# Altium integrated library SparkFun-Aesthetics.Library.IntLib: 94 symbols
Pins are listed as number, name and electrical type; pins without a type are passive.

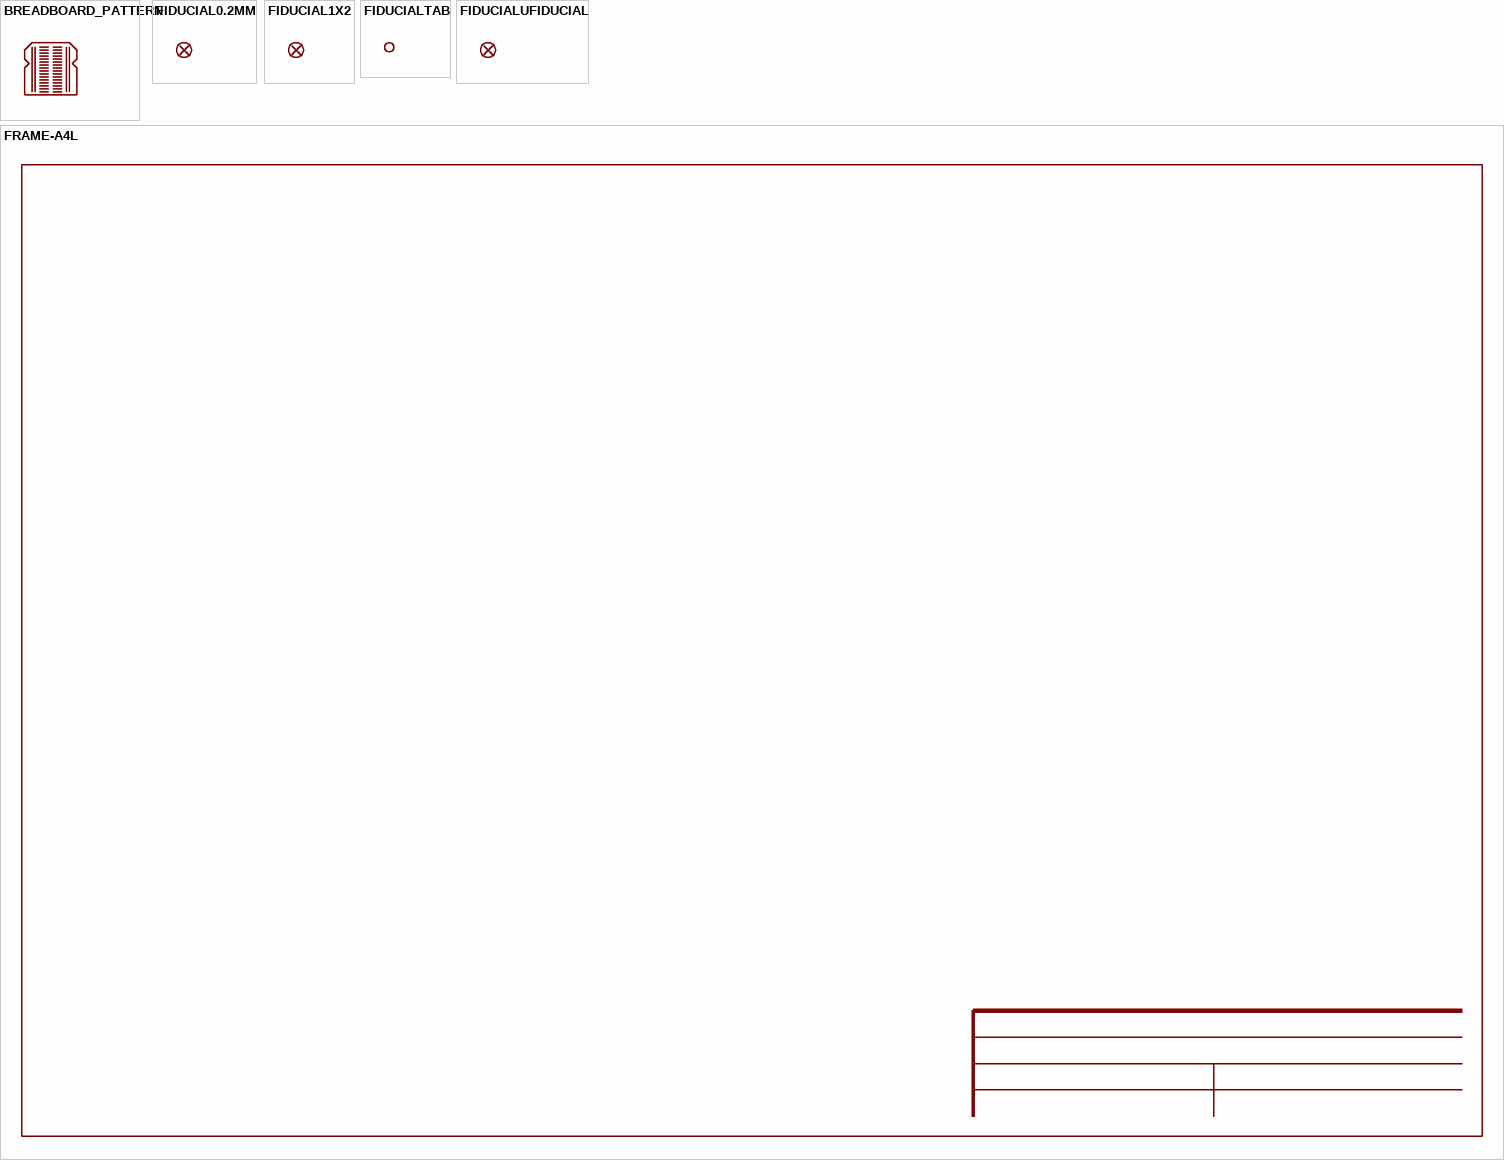
[diagram p0: symbols BREADBOARD_PATTERN to FRAME-A4L]

## BREADBOARD_PATTERN
designator LOGO?, comment Breadboard-Spacing Reference    tDoc reference markings that correspond to solderless breadboard row spacing. Includes power rails and void space between rows.  (value not drawn)
GateName_1: G$1; SymbolName_1: BREADBOARD_ROWS; DeviceSetName: BREADBOARD_PATTERN; LibraryName: SparkFun-Aesthetics; Package: BREADBOARD_SPACING
footprint BREADBOARD_SPACING

## FIDUCIAL0.2MM
designator FD?, comment Fiducial Alignment Points    Point-of-reference for pick-and-place machines and other optical instruments.  (value not drawn)
GateName_1: G$1; DeviceName: 0.2MM; SymbolName_1: FIDUCIAL; LibraryName: SparkFun-Aesthetics; DeviceSetName: FIDUCIAL; Package: FIDUCIAL-0.2MM
footprint FIDUCIAL-0.2MM

## FIDUCIAL1X2
designator FD?, comment Fiducial Alignment Points    Point-of-reference for pick-and-place machines and other optical instruments.  (value not drawn)
GateName_1: G$1; DeviceName: 1X2; SymbolName_1: FIDUCIAL; LibraryName: SparkFun-Aesthetics; DeviceSetName: FIDUCIAL; Package: FIDUCIAL-1X2
footprint FIDUCIAL-1X2

## FIDUCIALTAB
designator FD?, comment Fiducial Panel Tab    This is half of a tab, with fiducial reference mark, used to connect individual boards in a panel of PCBs.   Two of these half tabs, rotated in opposite directions, can be connected together to form a full tab, with two fiducial markings. Place along the edge of a panel of PCBs, this will allow for panels with boards not connected by v-scores, which allows for easier depanelization where there are overhanging components. It can also be used for designs too small to accomodate fiducial marks on individual boards.  (value not drawn)
GateName_1: G$1; SymbolName_1: FIDUCIALTAB; LibraryName: SparkFun-Aesthetics; DeviceSetName: FIDUCIALTAB; Package: FIDUCIALTAB
footprint FIDUCIALTAB

## FIDUCIALUFIDUCIAL
designator FD?, comment Fiducial Alignment Points    Point-of-reference for pick-and-place machines and other optical instruments.  (value not drawn)
GateName_1: G$1; DeviceName: UFIDUCIAL; SymbolName_1: FIDUCIAL; LibraryName: SparkFun-Aesthetics; DeviceSetName: FIDUCIAL; Package: FIDUCIAL-MICRO
footprint FIDUCIAL-MICRO

## FIO_LOGOV2
designator LOGO?, comment Funnel IO (FIO) Logo - Silkscreen    Used on the Arduino Fio.   Devices using:  FIO_LOGO  (value not drawn)
GateName_1: G$1; DeviceName: V2; SymbolName_1: FIO_LOGO; LibraryName: SparkFun-Aesthetics; DeviceSetName: FIO_LOGO; Package: FIO_LOGO
footprint FIO_LOGO

## FOUR_LAYER_WARNING
designator LOGO?, comment Four-Layer Board Warning - tDoc Layer    Warning text which will appear on both the schematic and the board file, notifying viewers that the design is a four-layer PCB.  (value not drawn)
GateName_1: G$1; SymbolName_1: FOUR_LAYER_WARNING; LibraryName: SparkFun-Aesthetics; DeviceSetName: FOUR_LAYER_WARNING; Package: FOUR_LAYER_WARNING
footprint FOUR_LAYER_WARNING

## FRAME-A4L
designator FRAME?, comment Schematic Frame - A4L - European Format    Standard A4 size frame in Landscape  (value not drawn)
GateName_1: G$1; SymbolName_1: FR-A4L; LibraryName: SparkFun-Aesthetics; DeviceSetName: FRAME-A4L

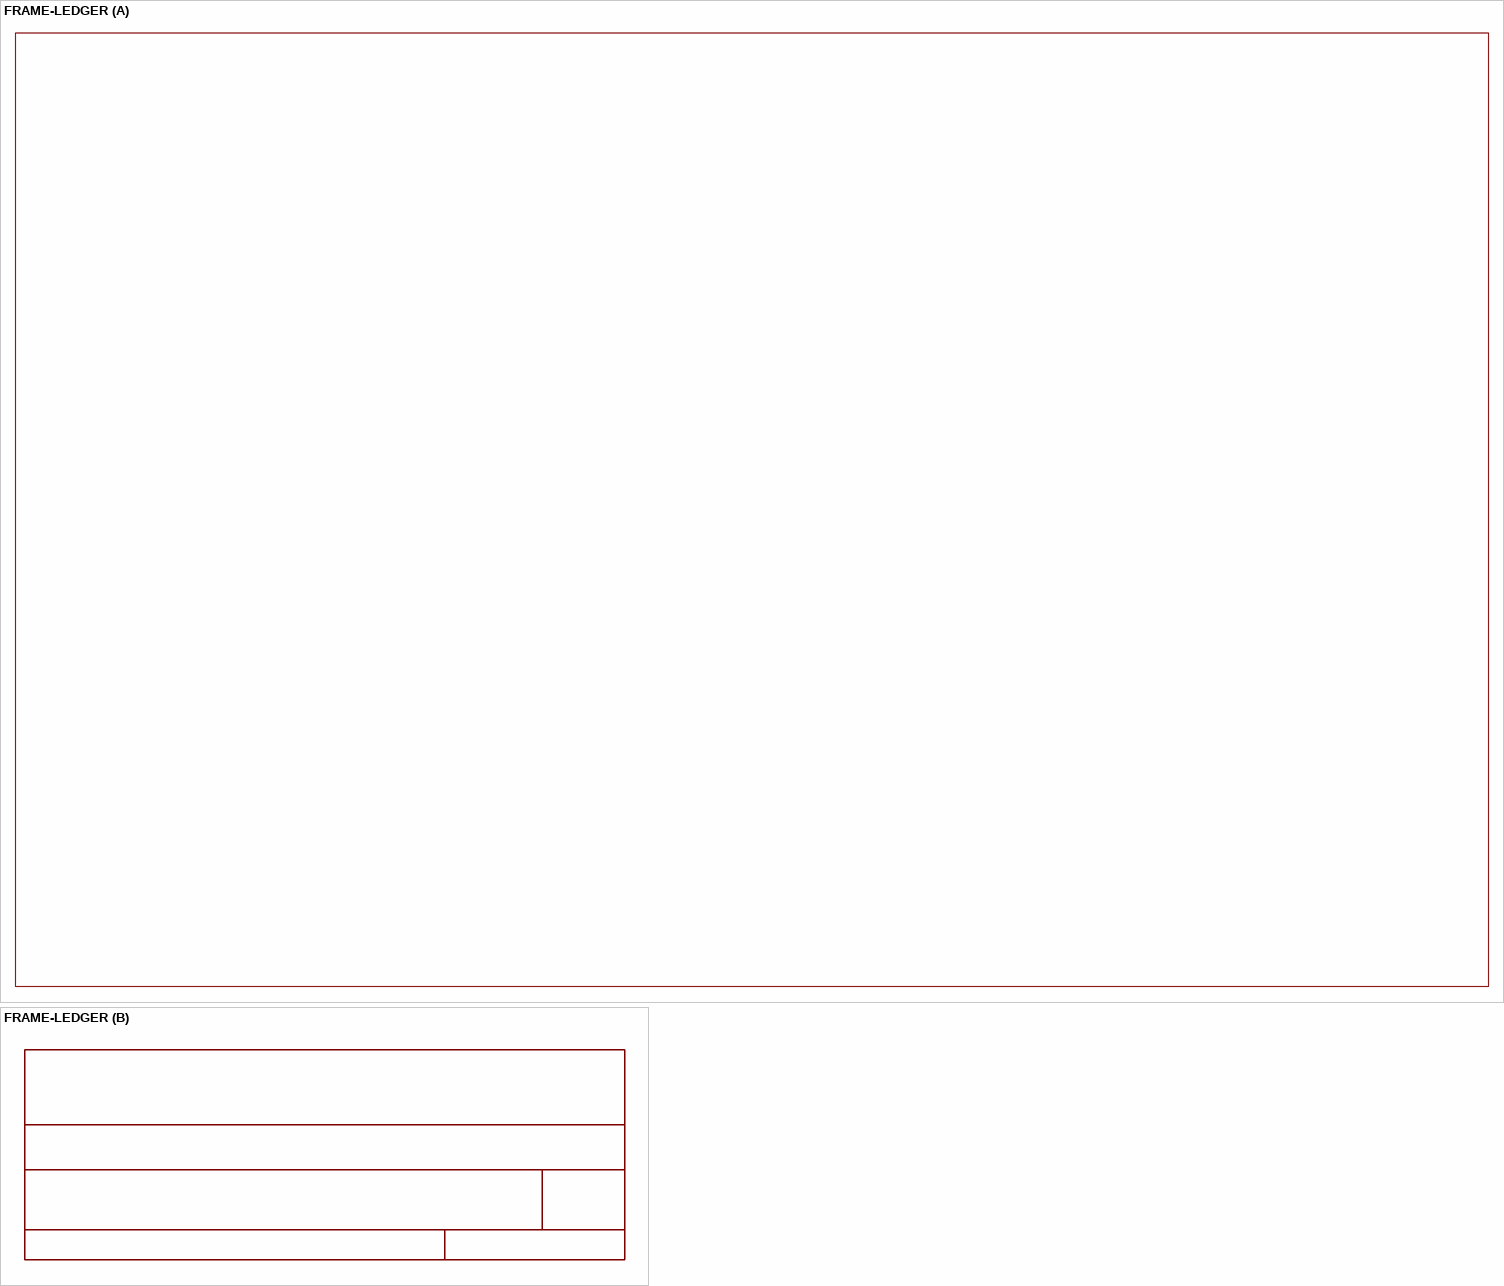
[diagram p1: symbol FRAME-LEDGER]

## FRAME-LEDGER
designator FRAME?, comment Schematic Frame - Ledger    Standard 11x14 US Ledger frame  (value not drawn)
GateName_1: G$1; SymbolName_1: FRAME_LEDGER; GateName_2: G$2; SymbolName_2: DOCFIELD; LibraryName: SparkFun-Aesthetics; DeviceSetName: FRAME-LEDGER; Package: CREATIVE_COMMONS
footprint CREATIVE_COMMONS

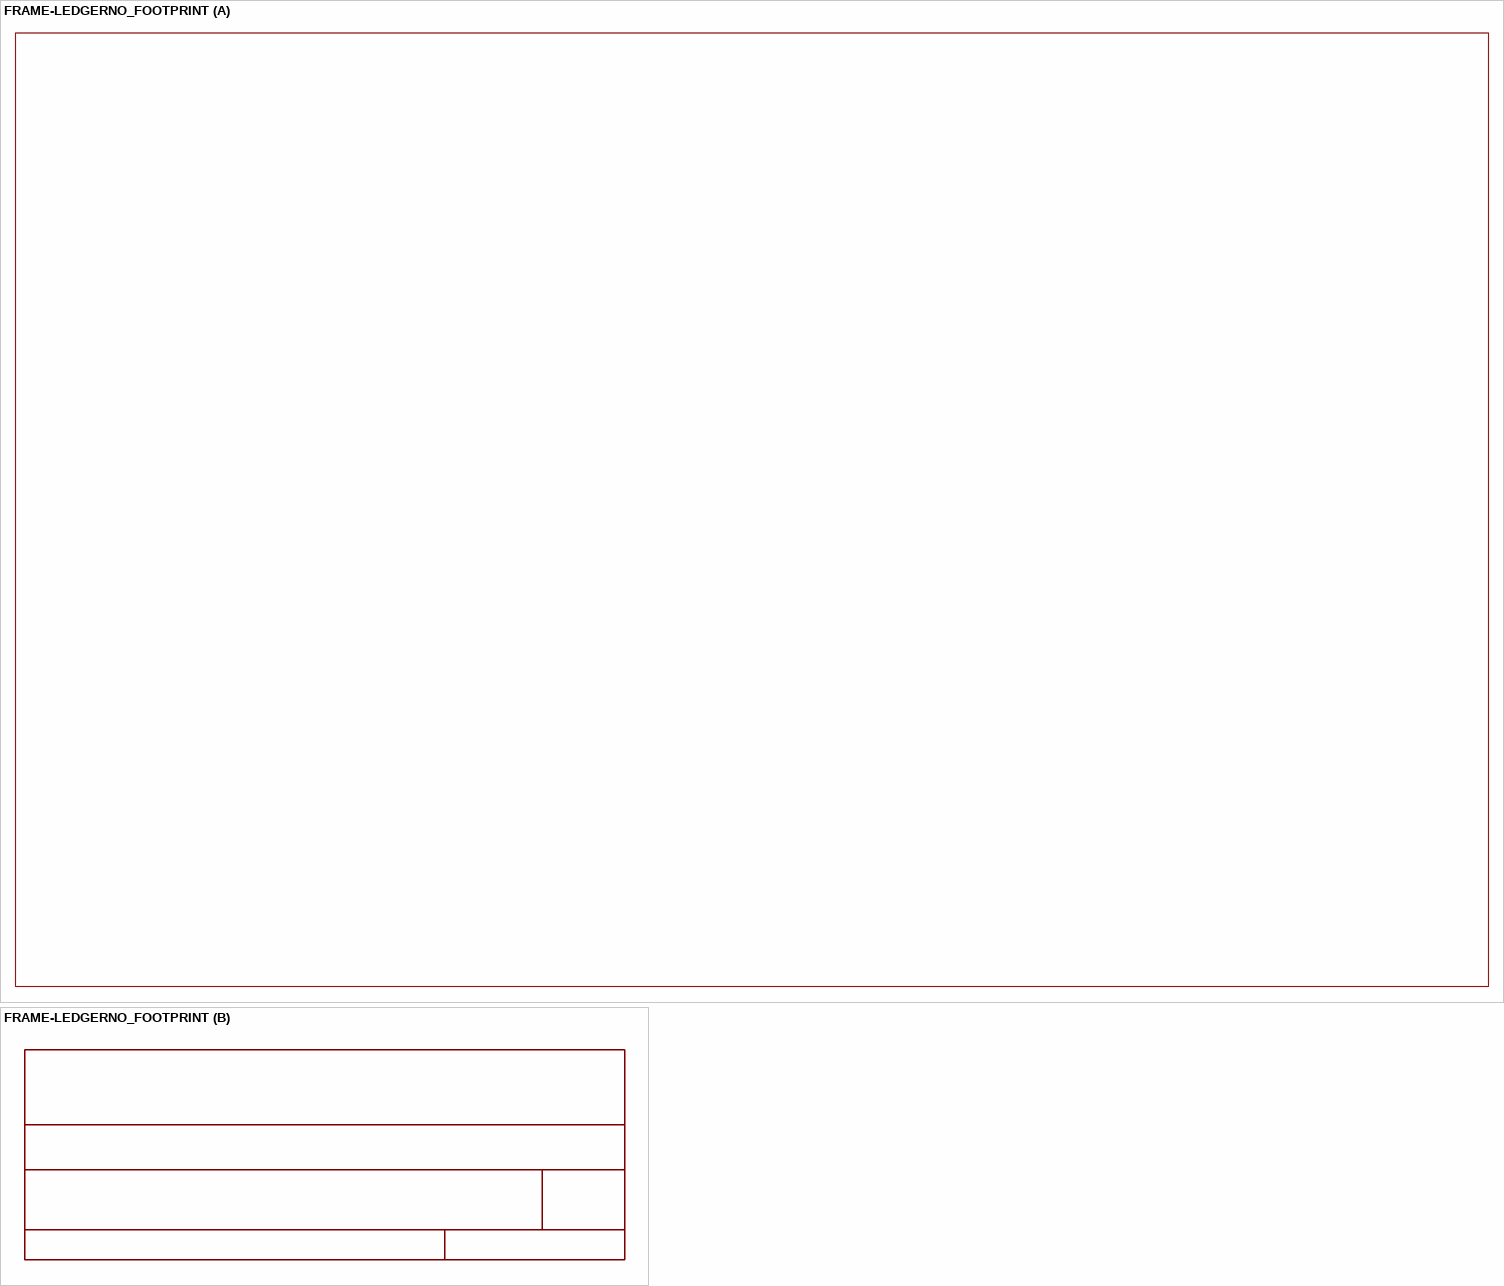
[diagram p2: symbol FRAME-LEDGERNO_FOOTPRINT]

## FRAME-LEDGERNO_FOOTPRINT
designator FRAME?, comment Schematic Frame - Ledger    Standard 11x14 US Ledger frame  (value not drawn)
GateName_1: G$1; SymbolName_1: FRAME_LEDGER; GateName_2: G$2; SymbolName_2: DOCFIELD; DeviceName: NO_FOOTPRINT; LibraryName: SparkFun-Aesthetics; DeviceSetName: FRAME-LEDGER; Package: DUMMY
footprint DUMMY

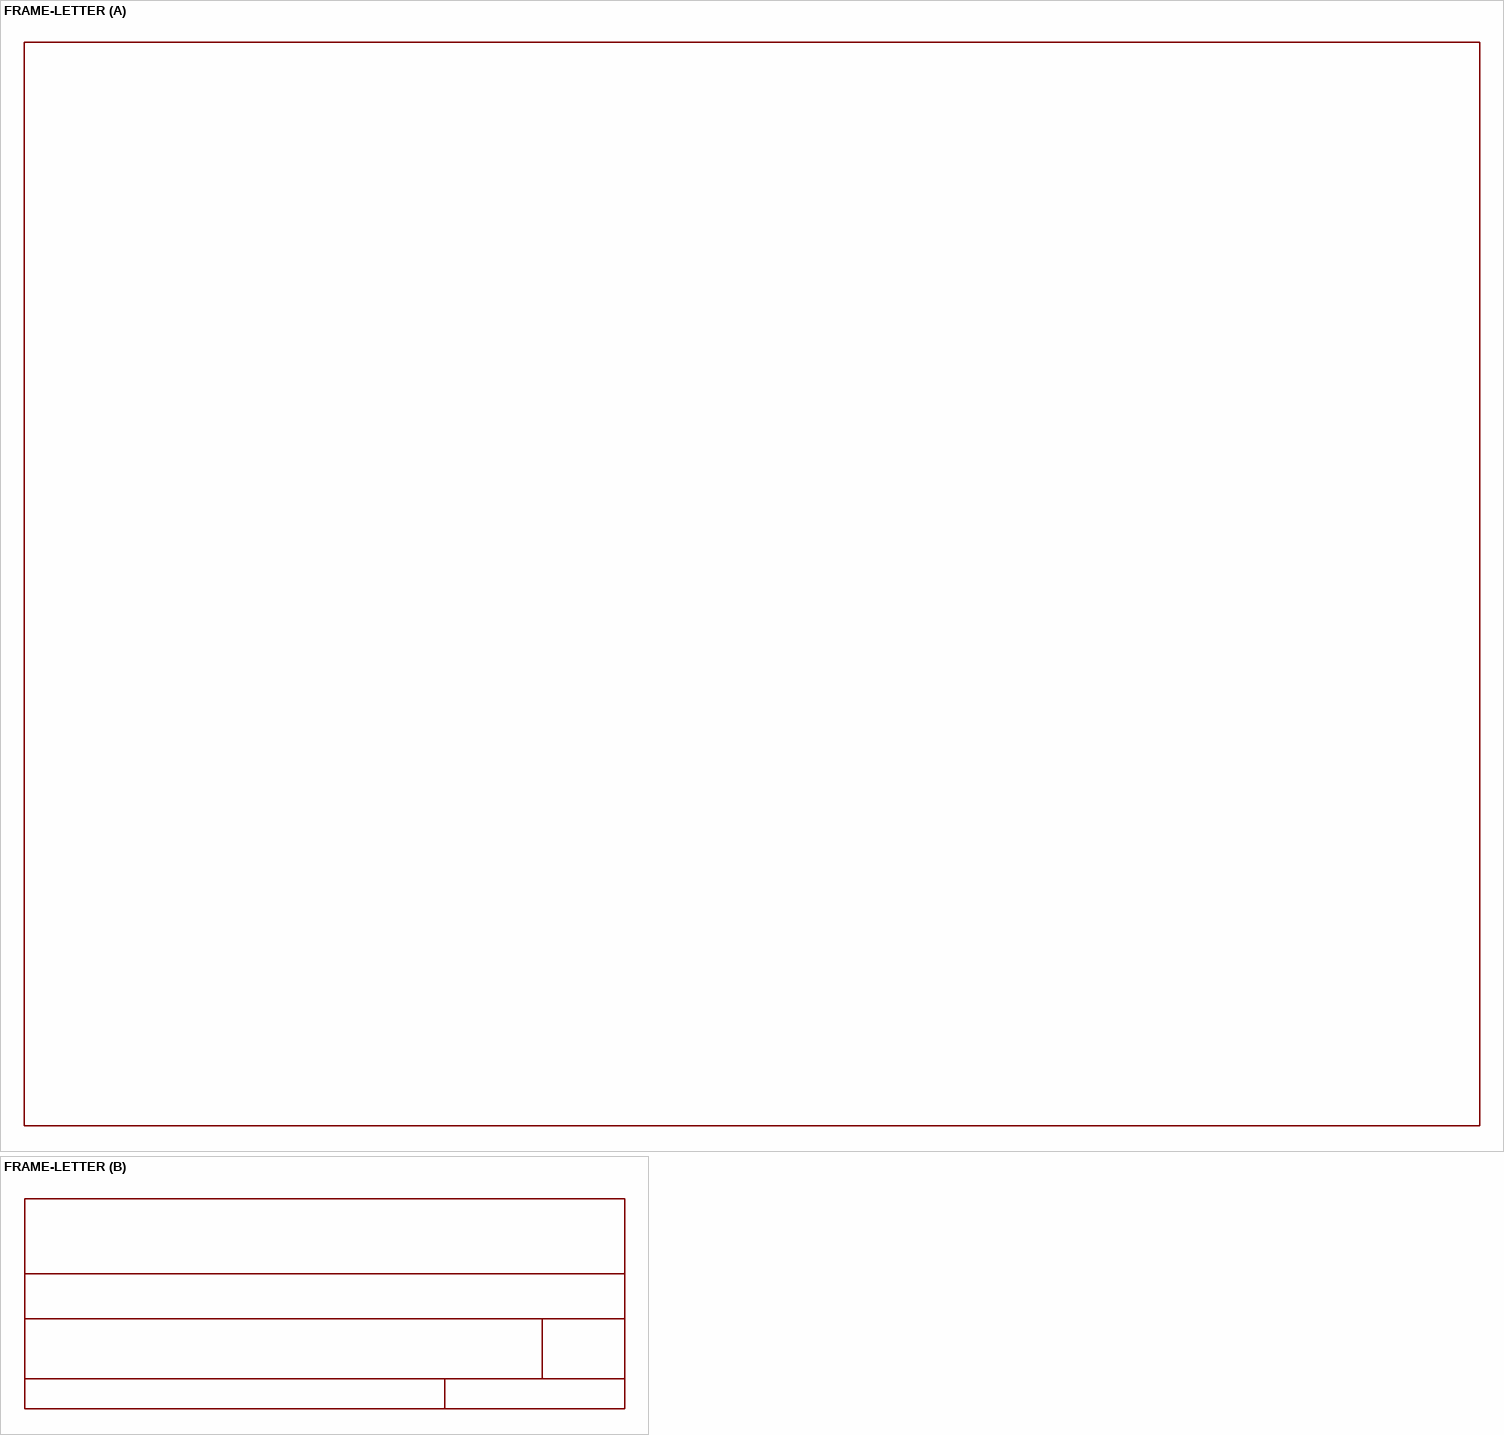
[diagram p3: symbol FRAME-LETTER]

## FRAME-LETTER
designator FRAME?, comment Schematic Frame - Letter    Standard 8.5x11 US Letter frame  (value not drawn)
GateName_1: G$1; GateName_2: V; SymbolName_2: DOCFIELD; SymbolName_1: FRAME-LETTER; LibraryName: SparkFun-Aesthetics; DeviceSetName: FRAME-LETTER; Package: CREATIVE_COMMONS
footprint CREATIVE_COMMONS

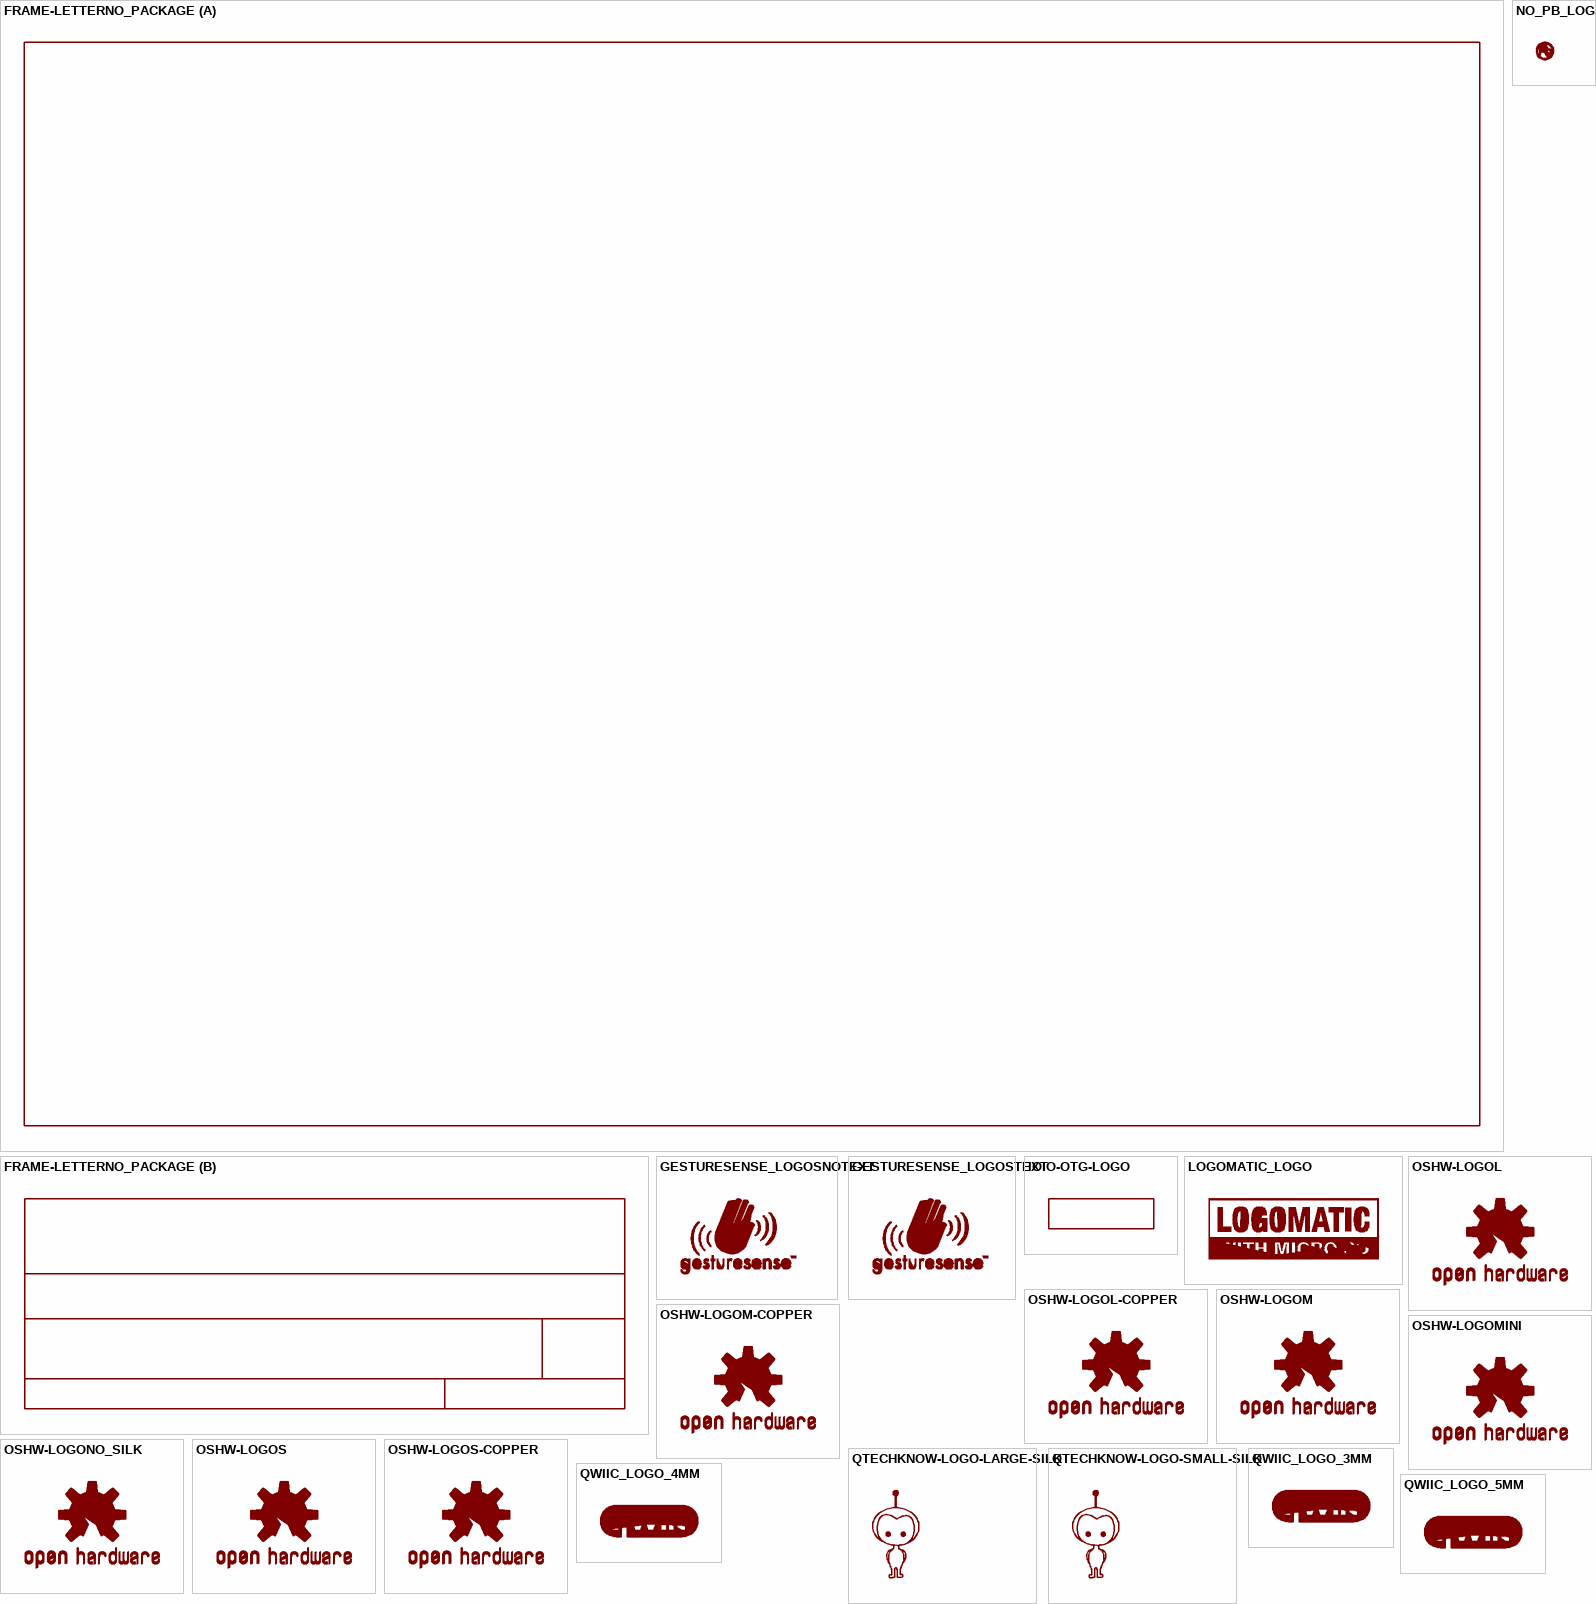
[diagram p4: symbols FRAME-LETTERNO_PACKAGE to QWIIC_LOGO_5MM]

## FRAME-LETTERNO_PACKAGE
designator FRAME?, comment Schematic Frame - Letter    Standard 8.5x11 US Letter frame  (value not drawn)
GateName_1: G$1; GateName_2: V; SymbolName_2: DOCFIELD; DeviceName: NO_PACKAGE; DESIGNER: Nobody; SymbolName_1: FRAME-LETTER; LibraryName: SparkFun-Aesthetics; DeviceSetName: FRAME-LETTER; Package: DUMMY; VERSION: v01
footprint DUMMY

## GESTURESENSE_LOGOSNOTEXT
designator LOGO?, comment GestureSense Logo    Used on the ZX Distance and Gesture Sensor.  (value not drawn)
GateName_1: G$1; DeviceName: NOTEXT; DeviceSetName: GESTURESENSE_LOGOS; SymbolName_1: GESTURESENSE; LibraryName: SparkFun-Aesthetics; Package: GESTURESENSE_NOTEXT
footprint GESTURESENSE_NOTEXT

## GESTURESENSE_LOGOSTEXT
designator LOGO?, comment GestureSense Logo    Used on the ZX Distance and Gesture Sensor.  (value not drawn)
GateName_1: G$1; DeviceName: TEXT; DeviceSetName: GESTURESENSE_LOGOS; SymbolName_1: GESTURESENSE; LibraryName: SparkFun-Aesthetics; Package: GESTURESENSE_TEXT
footprint GESTURESENSE_TEXT

## IOIO-OTG-LOGO
designator LOGO?, comment IOIO OTG Logo - Exposed Copper    Logo used on the SparkFun IOIO-OTG.  (value not drawn)
GateName_1: G$1; DeviceSetName: IOIO-OTG-LOGO; SymbolName_1: IOIO-OTG; LibraryName: SparkFun-Aesthetics; Package: IOIO-OTG-COPPER-EXPOSED
footprint IOIO-OTG-COPPER-EXPOSED

## LOGO-CONTROLLER_BIT
designator ?
GateName_1: G$1; SymbolName_1: LOGO-CONTROLLER_BIT; LibraryName: SparkFun-Aesthetics; DeviceSetName: LOGO-CONTROLLER_BIT; Package: LOGO-CONTROLLER_BIT
footprint LOGO-CONTROLLER_BIT

## LOGOMATIC_LOGO
designator LOGO?, comment SparkFun Logomatic Logo - Silkscreen    Logo used on the SparkFun Logomatic v2.   Silk is .4" by 1.1" Board logo is .4" by 1.1"  (value not drawn)
GateName_1: G$1; SymbolName_1: LOGOMATIC_LOGO; LibraryName: SparkFun-Aesthetics; DeviceSetName: LOGOMATIC_LOGO; Package: LOGOMATIC_LOGO
footprint LOGOMATIC_LOGO

## NO_PB_LOGO
designator LOGO?, comment Lead-Free (No Pb) Logo    Logo for lead-safe certified hardware.  (value not drawn)
GateName_1: G$1; SymbolName_1: NO_PB_LOGO; LibraryName: SparkFun-Aesthetics; DeviceSetName: NO_PB_LOGO; Package: NO_PB_LOGO_0.120
footprint NO_PB_LOGO_0.120

## OSHW-LOGOL
designator LOGO?, comment Open-Source Hardware (OSHW) Logo     This logo indicates the piece of hardware it is found on incorporates a OSHW license and/or adheres to the definition of open source hardware found here: http://freedomdefined.org/OSHW  (value not drawn)
GateName_1: G$1; SymbolName_1: OSHW-LOGO; DeviceName: L; LibraryName: SparkFun-Aesthetics; DeviceSetName: OSHW-LOGO; Package: OSHW-LOGO-L
footprint OSHW-LOGO-L

## OSHW-LOGOL-COPPER
designator LOGO?, comment Open-Source Hardware (OSHW) Logo     This logo indicates the piece of hardware it is found on incorporates a OSHW license and/or adheres to the definition of open source hardware found here: http://freedomdefined.org/OSHW  (value not drawn)
GateName_1: G$1; SymbolName_1: OSHW-LOGO; DeviceName: L-COPPER; LibraryName: SparkFun-Aesthetics; DeviceSetName: OSHW-LOGO; Package: OSHW-LOGO-L_COPPER
footprint OSHW-LOGO-L_COPPER

## OSHW-LOGOM
designator LOGO?, comment Open-Source Hardware (OSHW) Logo     This logo indicates the piece of hardware it is found on incorporates a OSHW license and/or adheres to the definition of open source hardware found here: http://freedomdefined.org/OSHW  (value not drawn)
GateName_1: G$1; SymbolName_1: OSHW-LOGO; DeviceName: M; LibraryName: SparkFun-Aesthetics; DeviceSetName: OSHW-LOGO; Package: OSHW-LOGO-M
footprint OSHW-LOGO-M

## OSHW-LOGOM-COPPER
designator LOGO?, comment Open-Source Hardware (OSHW) Logo     This logo indicates the piece of hardware it is found on incorporates a OSHW license and/or adheres to the definition of open source hardware found here: http://freedomdefined.org/OSHW  (value not drawn)
GateName_1: G$1; SymbolName_1: OSHW-LOGO; DeviceName: M-COPPER; LibraryName: SparkFun-Aesthetics; DeviceSetName: OSHW-LOGO; Package: OSHW-LOGO-M_COPPER
footprint OSHW-LOGO-M_COPPER

## OSHW-LOGOMINI
designator LOGO?, comment Open-Source Hardware (OSHW) Logo     This logo indicates the piece of hardware it is found on incorporates a OSHW license and/or adheres to the definition of open source hardware found here: http://freedomdefined.org/OSHW  (value not drawn)
GateName_1: G$1; SymbolName_1: OSHW-LOGO; DeviceName: MINI; LibraryName: SparkFun-Aesthetics; DeviceSetName: OSHW-LOGO; Package: OSHW-LOGO-MINI
footprint OSHW-LOGO-MINI

## OSHW-LOGONO_SILK
designator LOGO?, comment Open-Source Hardware (OSHW) Logo     This logo indicates the piece of hardware it is found on incorporates a OSHW license and/or adheres to the definition of open source hardware found here: http://freedomdefined.org/OSHW  (value not drawn)
GateName_1: G$1; SymbolName_1: OSHW-LOGO; DeviceName: NO_SILK; LibraryName: SparkFun-Aesthetics; DeviceSetName: OSHW-LOGO; Package: DUMMY
footprint DUMMY

## OSHW-LOGOS
designator LOGO?, comment Open-Source Hardware (OSHW) Logo     This logo indicates the piece of hardware it is found on incorporates a OSHW license and/or adheres to the definition of open source hardware found here: http://freedomdefined.org/OSHW  (value not drawn)
GateName_1: G$1; SymbolName_1: OSHW-LOGO; DeviceName: S; LibraryName: SparkFun-Aesthetics; DeviceSetName: OSHW-LOGO; Package: OSHW-LOGO-S
footprint OSHW-LOGO-S

## OSHW-LOGOS-COPPER
designator LOGO?, comment Open-Source Hardware (OSHW) Logo     This logo indicates the piece of hardware it is found on incorporates a OSHW license and/or adheres to the definition of open source hardware found here: http://freedomdefined.org/OSHW  (value not drawn)
GateName_1: G$1; SymbolName_1: OSHW-LOGO; DeviceName: S-COPPER; LibraryName: SparkFun-Aesthetics; DeviceSetName: OSHW-LOGO; Package: OSHW-LOGO-S_COPPER
footprint OSHW-LOGO-S_COPPER

## QTECHKNOW-LOGO-LARGE-SILK
designator LOGO?, comment Qtechknow "MightyQ" Logo    Silkscreen logo used on the Qduino Mini.  (value not drawn)
GateName_1: G$1; DeviceName: -LARGE-SILK; DeviceSetName: QTECHKNOW-LOGO; SymbolName_1: MIGHTYQ; LibraryName: SparkFun-Aesthetics; Package: QTECHKNOW-LOGO-LARGE-SILK
footprint QTECHKNOW-LOGO-LARGE-SILK

## QTECHKNOW-LOGO-SMALL-SILK
designator LOGO?, comment Qtechknow "MightyQ" Logo    Silkscreen logo used on the Qduino Mini.  (value not drawn)
GateName_1: G$1; DeviceName: -SMALL-SILK; DeviceSetName: QTECHKNOW-LOGO; SymbolName_1: MIGHTYQ; LibraryName: SparkFun-Aesthetics; Package: QTECHKNOW-LOGO-SMALL-SILK
footprint QTECHKNOW-LOGO-SMALL-SILK

## QWIIC_LOGO_3MM
designator LOGO?, comment Qwiic Logos for placement on schematic and PCB. The 5.5mm silk logo is best for placing next to Qwiic connector.  (value not drawn)
GateName_1: G$1; DeviceName: _3MM; DeviceSetName: QWIIC_LOGO; SymbolName_1: LOGO; LibraryName: SparkFun-Aesthetics; Package: QWIIC_3MM
footprint QWIIC_3MM

## QWIIC_LOGO_4MM
designator LOGO?, comment Qwiic Logos for placement on schematic and PCB. The 5.5mm silk logo is best for placing next to Qwiic connector.  (value not drawn)
GateName_1: G$1; DeviceName: _4MM; DeviceSetName: QWIIC_LOGO; SymbolName_1: LOGO; LibraryName: SparkFun-Aesthetics; Package: QWIIC_4MM
footprint QWIIC_4MM

## QWIIC_LOGO_5MM
designator LOGO?, comment Qwiic Logos for placement on schematic and PCB. The 5.5mm silk logo is best for placing next to Qwiic connector.  (value not drawn)
GateName_1: G$1; DeviceName: _5MM; DeviceSetName: QWIIC_LOGO; SymbolName_1: LOGO; LibraryName: SparkFun-Aesthetics; Package: QWIIC_5MM
footprint QWIIC_5MM

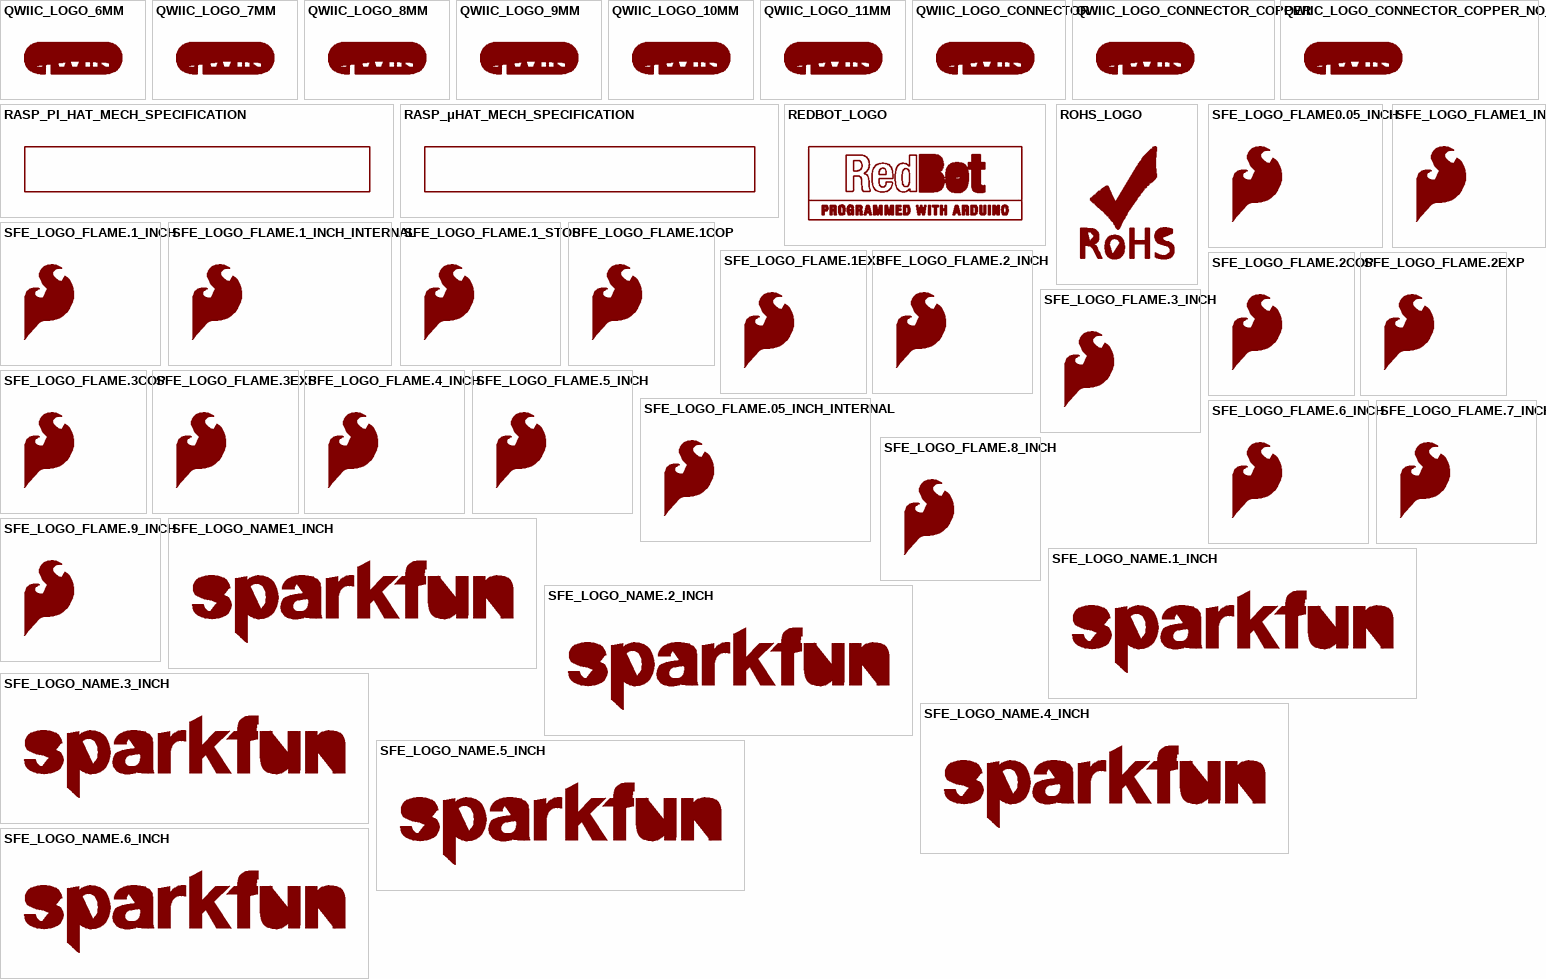
[diagram p5: symbols QWIIC_LOGO_6MM to SFE_LOGO_NAME.6_INCH]

## QWIIC_LOGO_6MM
designator LOGO?, comment Qwiic Logos for placement on schematic and PCB. The 5.5mm silk logo is best for placing next to Qwiic connector.  (value not drawn)
GateName_1: G$1; DeviceName: _6MM; DeviceSetName: QWIIC_LOGO; SymbolName_1: LOGO; LibraryName: SparkFun-Aesthetics; Package: QWIIC_6MM
footprint QWIIC_6MM

## QWIIC_LOGO_7MM
designator LOGO?, comment Qwiic Logos for placement on schematic and PCB. The 5.5mm silk logo is best for placing next to Qwiic connector.  (value not drawn)
GateName_1: G$1; DeviceName: _7MM; DeviceSetName: QWIIC_LOGO; SymbolName_1: LOGO; LibraryName: SparkFun-Aesthetics; Package: QWIIC_7MM
footprint QWIIC_7MM

## QWIIC_LOGO_8MM
designator LOGO?, comment Qwiic Logos for placement on schematic and PCB. The 5.5mm silk logo is best for placing next to Qwiic connector.  (value not drawn)
GateName_1: G$1; DeviceName: _8MM; DeviceSetName: QWIIC_LOGO; SymbolName_1: LOGO; LibraryName: SparkFun-Aesthetics; Package: QWIIC_8MM
footprint QWIIC_8MM

## QWIIC_LOGO_9MM
designator LOGO?, comment Qwiic Logos for placement on schematic and PCB. The 5.5mm silk logo is best for placing next to Qwiic connector.  (value not drawn)
GateName_1: G$1; DeviceName: _9MM; DeviceSetName: QWIIC_LOGO; SymbolName_1: LOGO; LibraryName: SparkFun-Aesthetics; Package: QWIIC_9MM
footprint QWIIC_9MM

## QWIIC_LOGO_10MM
designator LOGO?, comment Qwiic Logos for placement on schematic and PCB. The 5.5mm silk logo is best for placing next to Qwiic connector.  (value not drawn)
GateName_1: G$1; DeviceName: _10MM; DeviceSetName: QWIIC_LOGO; SymbolName_1: LOGO; LibraryName: SparkFun-Aesthetics; Package: QWIIC_10MM
footprint QWIIC_10MM

## QWIIC_LOGO_11MM
designator LOGO?, comment Qwiic Logos for placement on schematic and PCB. The 5.5mm silk logo is best for placing next to Qwiic connector.  (value not drawn)
GateName_1: G$1; DeviceName: _11MM; DeviceSetName: QWIIC_LOGO; SymbolName_1: LOGO; LibraryName: SparkFun-Aesthetics; Package: QWIIC_11MM
footprint QWIIC_11MM

## QWIIC_LOGO_CONNECTOR
designator LOGO?, comment Qwiic Logos for placement on schematic and PCB. The 5.5mm silk logo is best for placing next to Qwiic connector.  (value not drawn)
GateName_1: G$1; DeviceName: _CONNECTOR; DeviceSetName: QWIIC_LOGO; SymbolName_1: LOGO; LibraryName: SparkFun-Aesthetics; Package: QWIIC_5.5MM
footprint QWIIC_5.5MM

## QWIIC_LOGO_CONNECTOR_COPPER
designator LOGO?, comment Qwiic Logos for placement on schematic and PCB. The 5.5mm silk logo is best for placing next to Qwiic connector.  (value not drawn)
GateName_1: G$1; DeviceName: _CONNECTOR_COPPER; DeviceSetName: QWIIC_LOGO; SymbolName_1: LOGO; LibraryName: SparkFun-Aesthetics; Package: QWIIC_5.5MM_COPPER
footprint QWIIC_5.5MM_COPPER

## QWIIC_LOGO_CONNECTOR_COPPER_NO_MASK
designator LOGO?, comment Qwiic Logos for placement on schematic and PCB. The 5.5mm silk logo is best for placing next to Qwiic connector.  (value not drawn)
GateName_1: G$1; DeviceName: _CONNECTOR_COPPER_NO_MASK; DeviceSetName: QWIIC_LOGO; SymbolName_1: LOGO; LibraryName: SparkFun-Aesthetics; Package: QWIIC_5.5MM_COPPER_NO_MASK
footprint QWIIC_5.5MM_COPPER_NO_MASK

## RASP_PI_HAT_MECH_SPECIFICATION
designator ?
GateName_1: G$1; SymbolName_1: RASP_PI_HAT_SPECIFICATION; DeviceSetName: RASP_PI_HAT_MECH_SPECIFICATION; LibraryName: SparkFun-Aesthetics; Package: RASP_PI_HAT_SPECIFICATION
footprint RASP_PI_HAT_SPECIFICATION

## RASP_μHAT_MECH_SPECIFICATION
designator ?, comment Mechanical Specification for Raspberry Î¼Hat    The mechanical specification was pulled from their Github page.  (value not drawn)
GateName_1: G$1; SymbolName_1: RASP_μHAT_SPECIFICATION; DeviceSetName: RASP_μHAT_MECH_SPECIFICATION; LibraryName: SparkFun-Aesthetics; Package: RASP_μPI_HAT_SPECIFICATION
footprint RASP_μPI_HAT_SPECIFICATION

## REDBOT_LOGO
designator LOGO?, comment SparkFun RedBot Logo - Silkscreen    Logo for the RedBot board. Approx. 0.5" high, 1.4" wide. Used on the SparkFun RedBot Mainboard.  (value not drawn)
GateName_1: G$1; SymbolName_1: REDBOT_LOGO; LibraryName: SparkFun-Aesthetics; DeviceSetName: REDBOT_LOGO; Package: REDBOT_LOGO
footprint REDBOT_LOGO

## REVISION
designator LOGO?, comment "Revision By" Text    Preceding text for revisor documentation. Includes schematic text on "symbols" layer, and board text on tDoc.  (value not drawn)
GateName_1: G$1; SymbolName_1: REVISION; LibraryName: SparkFun-Aesthetics; DeviceSetName: REVISION; Package: REVISION
footprint REVISION

## ROHS_LOGO
designator LOGO?, comment Restriction of Hazardous Substances (RoHS) Logo    Logo for RoHS-certified hardware.  (value not drawn)
GateName_1: G$1; SymbolName_1: ROHS_LOGO; LibraryName: SparkFun-Aesthetics; DeviceSetName: ROHS_LOGO; Package: ROHS_LOGO_0.18_IN
footprint ROHS_LOGO_0.18_IN

## SFE_LOGO_FLAME0.05_INCH
designator LOGO?, comment SparkFun Flame Logo    This is the SparkFun flame logo. The logo on the schematic will always be the same size; the package variant is the height of the flame. Default layer for the logo on the board is tSilk.  (value not drawn)
GateName_1: G$1; SymbolName_1: SFE_LOGO_FLAME; DeviceName: 0.05_INCH; LibraryName: SparkFun-Aesthetics; DeviceSetName: SFE_LOGO_FLAME; Package: SFE_LOGO_FLAME_.05
footprint SFE_LOGO_FLAME_.05

## SFE_LOGO_FLAME1_INCH
designator LOGO?, comment SparkFun Flame Logo    This is the SparkFun flame logo. The logo on the schematic will always be the same size; the package variant is the height of the flame. Default layer for the logo on the board is tSilk.  (value not drawn)
GateName_1: G$1; SymbolName_1: SFE_LOGO_FLAME; DeviceName: 1_INCH; LibraryName: SparkFun-Aesthetics; DeviceSetName: SFE_LOGO_FLAME; Package: SFE_LOGO_FLAME_.9
footprint SFE_LOGO_FLAME_.9

## SFE_LOGO_FLAME.1_INCH
designator LOGO?, comment SparkFun Flame Logo    This is the SparkFun flame logo. The logo on the schematic will always be the same size; the package variant is the height of the flame. Default layer for the logo on the board is tSilk.  (value not drawn)
GateName_1: G$1; SymbolName_1: SFE_LOGO_FLAME; DeviceName: .1_INCH; LibraryName: SparkFun-Aesthetics; DeviceSetName: SFE_LOGO_FLAME; Package: SFE_LOGO_FLAME_.1
footprint SFE_LOGO_FLAME_.1

## SFE_LOGO_FLAME.1_INCH_INTERNAL
designator LOGO?, comment SparkFun Flame Logo    This is the SparkFun flame logo. The logo on the schematic will always be the same size; the package variant is the height of the flame. Default layer for the logo on the board is tSilk.  (value not drawn)
GateName_1: G$1; SymbolName_1: SFE_LOGO_FLAME; DeviceName: .1_INCH_INTERNAL; LibraryName: SparkFun-Aesthetics; DeviceSetName: SFE_LOGO_FLAME; Package: SEF_LOGO_FLAME_INTERNAL_.1
footprint SEF_LOGO_FLAME_INTERNAL_.1

## SFE_LOGO_FLAME.1_STOP
designator LOGO?, comment SparkFun Flame Logo    This is the SparkFun flame logo. The logo on the schematic will always be the same size; the package variant is the height of the flame. Default layer for the logo on the board is tSilk.  (value not drawn)
GateName_1: G$1; SymbolName_1: SFE_LOGO_FLAME; DeviceName: .1_STOP; LibraryName: SparkFun-Aesthetics; DeviceSetName: SFE_LOGO_FLAME; Package: SFE_LOGO_FLAME_STOP_.1
footprint SFE_LOGO_FLAME_STOP_.1

## SFE_LOGO_FLAME.1COP
designator LOGO?, comment SparkFun Flame Logo    This is the SparkFun flame logo. The logo on the schematic will always be the same size; the package variant is the height of the flame. Default layer for the logo on the board is tSilk.  (value not drawn)
GateName_1: G$1; SymbolName_1: SFE_LOGO_FLAME; DeviceName: .1COP; LibraryName: SparkFun-Aesthetics; DeviceSetName: SFE_LOGO_FLAME; Package: SFE_LOGO_FLAME_COPPER_.1
footprint SFE_LOGO_FLAME_COPPER_.1

## SFE_LOGO_FLAME.1EXP
designator LOGO?, comment SparkFun Flame Logo    This is the SparkFun flame logo. The logo on the schematic will always be the same size; the package variant is the height of the flame. Default layer for the logo on the board is tSilk.  (value not drawn)
GateName_1: G$1; SymbolName_1: SFE_LOGO_FLAME; DeviceName: .1EXP; LibraryName: SparkFun-Aesthetics; DeviceSetName: SFE_LOGO_FLAME; Package: SFE_LOGO_FLAME_COPPER_EXPOSED_.1
footprint SFE_LOGO_FLAME_COPPER_EXPOSED_.1

## SFE_LOGO_FLAME.2_INCH
designator LOGO?, comment SparkFun Flame Logo    This is the SparkFun flame logo. The logo on the schematic will always be the same size; the package variant is the height of the flame. Default layer for the logo on the board is tSilk.  (value not drawn)
GateName_1: G$1; SymbolName_1: SFE_LOGO_FLAME; DeviceName: .2_INCH; LibraryName: SparkFun-Aesthetics; DeviceSetName: SFE_LOGO_FLAME; Package: SFE_LOGO_FLAME_.2
footprint SFE_LOGO_FLAME_.2

## SFE_LOGO_FLAME.2COP
designator LOGO?, comment SparkFun Flame Logo    This is the SparkFun flame logo. The logo on the schematic will always be the same size; the package variant is the height of the flame. Default layer for the logo on the board is tSilk.  (value not drawn)
GateName_1: G$1; SymbolName_1: SFE_LOGO_FLAME; DeviceName: .2COP; LibraryName: SparkFun-Aesthetics; DeviceSetName: SFE_LOGO_FLAME; Package: SFE_LOGO_FLAME_COPPER_.2
footprint SFE_LOGO_FLAME_COPPER_.2

## SFE_LOGO_FLAME.2EXP
designator LOGO?, comment SparkFun Flame Logo    This is the SparkFun flame logo. The logo on the schematic will always be the same size; the package variant is the height of the flame. Default layer for the logo on the board is tSilk.  (value not drawn)
GateName_1: G$1; SymbolName_1: SFE_LOGO_FLAME; DeviceName: .2EXP; LibraryName: SparkFun-Aesthetics; DeviceSetName: SFE_LOGO_FLAME; Package: SFE_LOGO_FLAME_COPPER_EXPOSED_.2
footprint SFE_LOGO_FLAME_COPPER_EXPOSED_.2

## SFE_LOGO_FLAME.3_INCH
designator LOGO?, comment SparkFun Flame Logo    This is the SparkFun flame logo. The logo on the schematic will always be the same size; the package variant is the height of the flame. Default layer for the logo on the board is tSilk.  (value not drawn)
GateName_1: G$1; SymbolName_1: SFE_LOGO_FLAME; DeviceName: .3_INCH; LibraryName: SparkFun-Aesthetics; DeviceSetName: SFE_LOGO_FLAME; Package: SFE_LOGO_FLAME_.3
footprint SFE_LOGO_FLAME_.3

## SFE_LOGO_FLAME.3COP
designator LOGO?, comment SparkFun Flame Logo    This is the SparkFun flame logo. The logo on the schematic will always be the same size; the package variant is the height of the flame. Default layer for the logo on the board is tSilk.  (value not drawn)
GateName_1: G$1; SymbolName_1: SFE_LOGO_FLAME; DeviceName: .3COP; LibraryName: SparkFun-Aesthetics; DeviceSetName: SFE_LOGO_FLAME; Package: SFE_LOGO_FLAME_COPPER_.3
footprint SFE_LOGO_FLAME_COPPER_.3

## SFE_LOGO_FLAME.3EXP
designator LOGO?, comment SparkFun Flame Logo    This is the SparkFun flame logo. The logo on the schematic will always be the same size; the package variant is the height of the flame. Default layer for the logo on the board is tSilk.  (value not drawn)
GateName_1: G$1; SymbolName_1: SFE_LOGO_FLAME; DeviceName: .3EXP; LibraryName: SparkFun-Aesthetics; DeviceSetName: SFE_LOGO_FLAME; Package: SFE_LOGO_FLAME_COPPER_EXPOSED_.3
footprint SFE_LOGO_FLAME_COPPER_EXPOSED_.3

## SFE_LOGO_FLAME.4_INCH
designator LOGO?, comment SparkFun Flame Logo    This is the SparkFun flame logo. The logo on the schematic will always be the same size; the package variant is the height of the flame. Default layer for the logo on the board is tSilk.  (value not drawn)
GateName_1: G$1; SymbolName_1: SFE_LOGO_FLAME; DeviceName: .4_INCH; LibraryName: SparkFun-Aesthetics; DeviceSetName: SFE_LOGO_FLAME; Package: SFE_LOGO_FLAME_.4
footprint SFE_LOGO_FLAME_.4

## SFE_LOGO_FLAME.5_INCH
designator LOGO?, comment SparkFun Flame Logo    This is the SparkFun flame logo. The logo on the schematic will always be the same size; the package variant is the height of the flame. Default layer for the logo on the board is tSilk.  (value not drawn)
GateName_1: G$1; SymbolName_1: SFE_LOGO_FLAME; DeviceName: .5_INCH; LibraryName: SparkFun-Aesthetics; DeviceSetName: SFE_LOGO_FLAME; Package: SFE_LOGO_FLAME_.5
footprint SFE_LOGO_FLAME_.5

## SFE_LOGO_FLAME.05_INCH_INTERNAL
designator LOGO?, comment SparkFun Flame Logo    This is the SparkFun flame logo. The logo on the schematic will always be the same size; the package variant is the height of the flame. Default layer for the logo on the board is tSilk.  (value not drawn)
GateName_1: G$1; SymbolName_1: SFE_LOGO_FLAME; DeviceName: .05_INCH_INTERNAL; LibraryName: SparkFun-Aesthetics; DeviceSetName: SFE_LOGO_FLAME; Package: SFE_LOGO_FLAME_INTERNAL_0.05
footprint SFE_LOGO_FLAME_INTERNAL_0.05

## SFE_LOGO_FLAME.6_INCH
designator LOGO?, comment SparkFun Flame Logo    This is the SparkFun flame logo. The logo on the schematic will always be the same size; the package variant is the height of the flame. Default layer for the logo on the board is tSilk.  (value not drawn)
GateName_1: G$1; SymbolName_1: SFE_LOGO_FLAME; DeviceName: .6_INCH; LibraryName: SparkFun-Aesthetics; DeviceSetName: SFE_LOGO_FLAME; Package: SFE_LOGO_FLAME_.6
footprint SFE_LOGO_FLAME_.6

## SFE_LOGO_FLAME.7_INCH
designator LOGO?, comment SparkFun Flame Logo    This is the SparkFun flame logo. The logo on the schematic will always be the same size; the package variant is the height of the flame. Default layer for the logo on the board is tSilk.  (value not drawn)
GateName_1: G$1; SymbolName_1: SFE_LOGO_FLAME; DeviceName: .7_INCH; LibraryName: SparkFun-Aesthetics; DeviceSetName: SFE_LOGO_FLAME; Package: SFE_LOGO_FLAME_.7
footprint SFE_LOGO_FLAME_.7

## SFE_LOGO_FLAME.8_INCH
designator LOGO?, comment SparkFun Flame Logo    This is the SparkFun flame logo. The logo on the schematic will always be the same size; the package variant is the height of the flame. Default layer for the logo on the board is tSilk.  (value not drawn)
GateName_1: G$1; SymbolName_1: SFE_LOGO_FLAME; DeviceName: .8_INCH; LibraryName: SparkFun-Aesthetics; DeviceSetName: SFE_LOGO_FLAME; Package: SFE_LOGO_FLAME_.8
footprint SFE_LOGO_FLAME_.8

## SFE_LOGO_FLAME.9_INCH
designator LOGO?, comment SparkFun Flame Logo    This is the SparkFun flame logo. The logo on the schematic will always be the same size; the package variant is the height of the flame. Default layer for the logo on the board is tSilk.  (value not drawn)
GateName_1: G$1; SymbolName_1: SFE_LOGO_FLAME; DeviceName: .9_INCH; LibraryName: SparkFun-Aesthetics; DeviceSetName: SFE_LOGO_FLAME; Package: SFE_LOGO_FLAME_.9
footprint SFE_LOGO_FLAME_.9

## SFE_LOGO_NAME1_INCH
designator LOGO?, comment SparkFun Font Logo    This is the SparkFun name logo. The logo on the schematic will always be the same size; the package variant is the height of the flame part of the logo (or the height the flame would be, if it were drawn). Default layer for the logo on the board is tSilk.  (value not drawn)
GateName_1: G$1; SymbolName_1: SFE_LOGO_NAME; DeviceName: 1_INCH; LibraryName: SparkFun-Aesthetics; DeviceSetName: SFE_LOGO_NAME; Package: SFE_LOGO_NAME_1
footprint SFE_LOGO_NAME_1

## SFE_LOGO_NAME.1_INCH
designator LOGO?, comment SparkFun Font Logo    This is the SparkFun name logo. The logo on the schematic will always be the same size; the package variant is the height of the flame part of the logo (or the height the flame would be, if it were drawn). Default layer for the logo on the board is tSilk.  (value not drawn)
GateName_1: G$1; SymbolName_1: SFE_LOGO_NAME; DeviceName: .1_INCH; LibraryName: SparkFun-Aesthetics; DeviceSetName: SFE_LOGO_NAME; Package: SFE_LOGO_NAME_.1
footprint SFE_LOGO_NAME_.1

## SFE_LOGO_NAME.2_INCH
designator LOGO?, comment SparkFun Font Logo    This is the SparkFun name logo. The logo on the schematic will always be the same size; the package variant is the height of the flame part of the logo (or the height the flame would be, if it were drawn). Default layer for the logo on the board is tSilk.  (value not drawn)
GateName_1: G$1; SymbolName_1: SFE_LOGO_NAME; DeviceName: .2_INCH; LibraryName: SparkFun-Aesthetics; DeviceSetName: SFE_LOGO_NAME; Package: SFE_LOGO_NAME_.2
footprint SFE_LOGO_NAME_.2

## SFE_LOGO_NAME.3_INCH
designator LOGO?, comment SparkFun Font Logo    This is the SparkFun name logo. The logo on the schematic will always be the same size; the package variant is the height of the flame part of the logo (or the height the flame would be, if it were drawn). Default layer for the logo on the board is tSilk.  (value not drawn)
GateName_1: G$1; SymbolName_1: SFE_LOGO_NAME; DeviceName: .3_INCH; LibraryName: SparkFun-Aesthetics; DeviceSetName: SFE_LOGO_NAME; Package: SFE_LOGO_NAME_.3
footprint SFE_LOGO_NAME_.3

## SFE_LOGO_NAME.4_INCH
designator LOGO?, comment SparkFun Font Logo    This is the SparkFun name logo. The logo on the schematic will always be the same size; the package variant is the height of the flame part of the logo (or the height the flame would be, if it were drawn). Default layer for the logo on the board is tSilk.  (value not drawn)
GateName_1: G$1; SymbolName_1: SFE_LOGO_NAME; DeviceName: .4_INCH; LibraryName: SparkFun-Aesthetics; DeviceSetName: SFE_LOGO_NAME; Package: SFE_LOGO_NAME_.4
footprint SFE_LOGO_NAME_.4

## SFE_LOGO_NAME.5_INCH
designator LOGO?, comment SparkFun Font Logo    This is the SparkFun name logo. The logo on the schematic will always be the same size; the package variant is the height of the flame part of the logo (or the height the flame would be, if it were drawn). Default layer for the logo on the board is tSilk.  (value not drawn)
GateName_1: G$1; SymbolName_1: SFE_LOGO_NAME; DeviceName: .5_INCH; LibraryName: SparkFun-Aesthetics; DeviceSetName: SFE_LOGO_NAME; Package: SFE_LOGO_NAME_.5
footprint SFE_LOGO_NAME_.5

## SFE_LOGO_NAME.6_INCH
designator LOGO?, comment SparkFun Font Logo    This is the SparkFun name logo. The logo on the schematic will always be the same size; the package variant is the height of the flame part of the logo (or the height the flame would be, if it were drawn). Default layer for the logo on the board is tSilk.  (value not drawn)
GateName_1: G$1; SymbolName_1: SFE_LOGO_NAME; DeviceName: .6_INCH; LibraryName: SparkFun-Aesthetics; DeviceSetName: SFE_LOGO_NAME; Package: SFE_LOGO_NAME_.6
footprint SFE_LOGO_NAME_.6

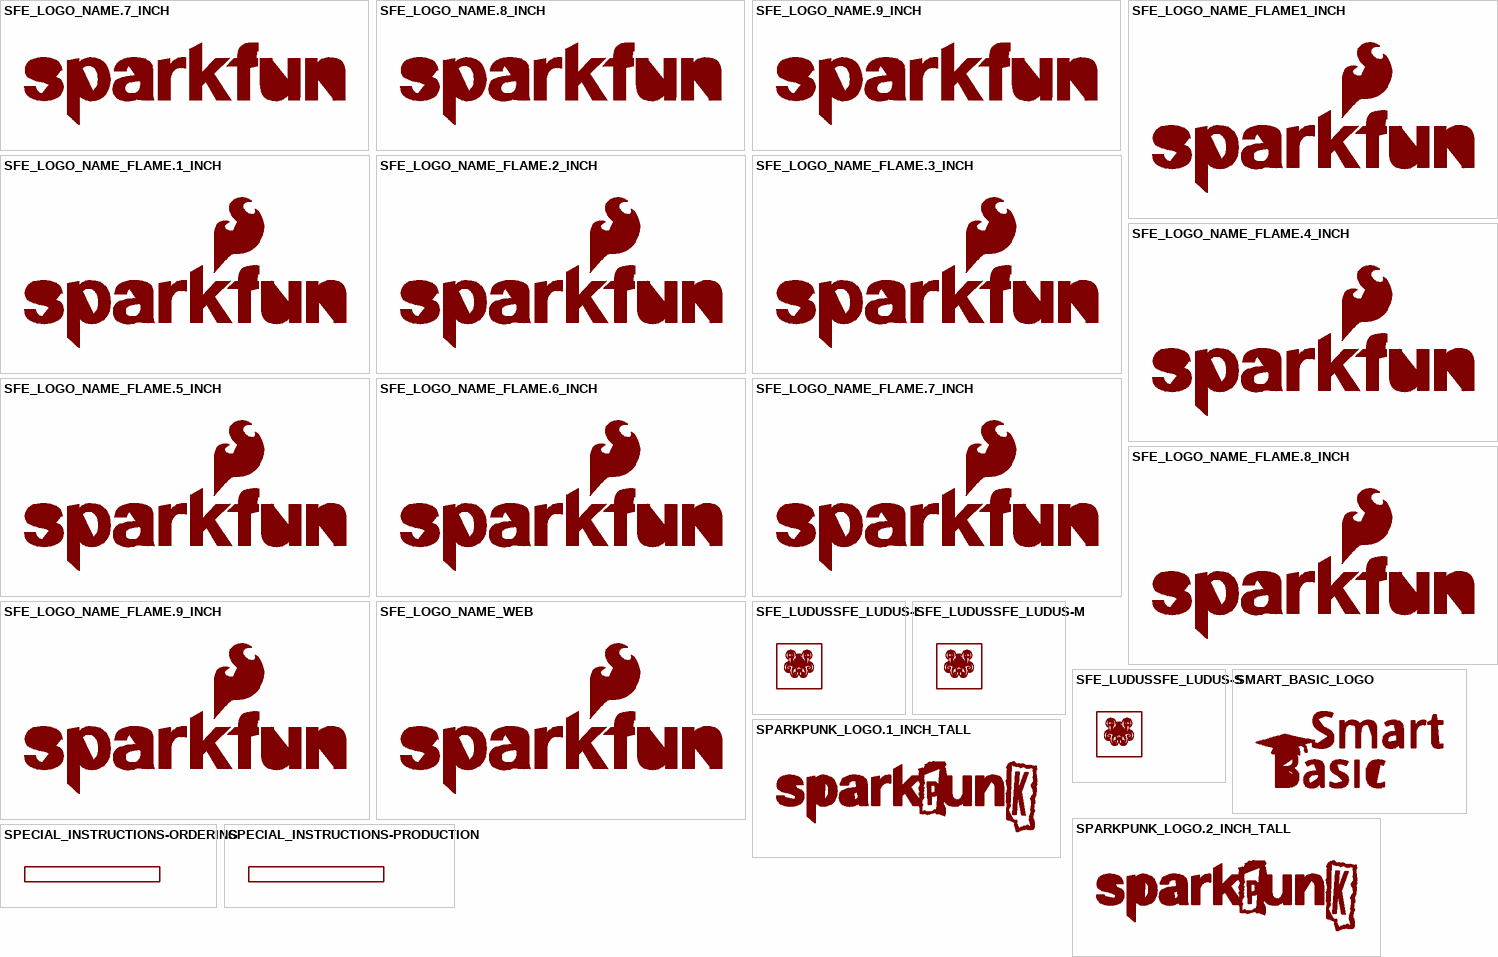
[diagram p6: symbols SFE_LOGO_NAME.7_INCH to SPECIAL_INSTRUCTIONS-PRODUCTION]

## SFE_LOGO_NAME.7_INCH
designator LOGO?, comment SparkFun Font Logo    This is the SparkFun name logo. The logo on the schematic will always be the same size; the package variant is the height of the flame part of the logo (or the height the flame would be, if it were drawn). Default layer for the logo on the board is tSilk.  (value not drawn)
GateName_1: G$1; SymbolName_1: SFE_LOGO_NAME; DeviceName: .7_INCH; LibraryName: SparkFun-Aesthetics; DeviceSetName: SFE_LOGO_NAME; Package: SFE_LOGO_NAME_.7
footprint SFE_LOGO_NAME_.7

## SFE_LOGO_NAME.8_INCH
designator LOGO?, comment SparkFun Font Logo    This is the SparkFun name logo. The logo on the schematic will always be the same size; the package variant is the height of the flame part of the logo (or the height the flame would be, if it were drawn). Default layer for the logo on the board is tSilk.  (value not drawn)
GateName_1: G$1; SymbolName_1: SFE_LOGO_NAME; DeviceName: .8_INCH; LibraryName: SparkFun-Aesthetics; DeviceSetName: SFE_LOGO_NAME; Package: SFE_LOGO_NAME_.8
footprint SFE_LOGO_NAME_.8

## SFE_LOGO_NAME.9_INCH
designator LOGO?, comment SparkFun Font Logo    This is the SparkFun name logo. The logo on the schematic will always be the same size; the package variant is the height of the flame part of the logo (or the height the flame would be, if it were drawn). Default layer for the logo on the board is tSilk.  (value not drawn)
GateName_1: G$1; SymbolName_1: SFE_LOGO_NAME; DeviceName: .9_INCH; LibraryName: SparkFun-Aesthetics; DeviceSetName: SFE_LOGO_NAME; Package: SFE_LOGO_NAME_.9
footprint SFE_LOGO_NAME_.9

## SFE_LOGO_NAME_FLAME1_INCH
designator LOGO?, comment SparkFun Font Logo w/ Flame    This is the SparkFun full logo. The logo on the schematic will always be the same size; the package variant is the height of the flame part of the logo. Default layer for the logo on the board is tSilk.  (value not drawn)
GateName_1: G$1; SymbolName_1: SFE_LOGO_NAME_FLAME; DeviceName: 1_INCH; LibraryName: SparkFun-Aesthetics; DeviceSetName: SFE_LOGO_NAME_FLAME; Package: SFE_LOGO_NAME_FLAME_1
footprint SFE_LOGO_NAME_FLAME_1

## SFE_LOGO_NAME_FLAME.1_INCH
designator LOGO?, comment SparkFun Font Logo w/ Flame    This is the SparkFun full logo. The logo on the schematic will always be the same size; the package variant is the height of the flame part of the logo. Default layer for the logo on the board is tSilk.  (value not drawn)
GateName_1: G$1; SymbolName_1: SFE_LOGO_NAME_FLAME; DeviceName: .1_INCH; LibraryName: SparkFun-Aesthetics; DeviceSetName: SFE_LOGO_NAME_FLAME; Package: SFE_LOGO_NAME_FLAME_.1
footprint SFE_LOGO_NAME_FLAME_.1

## SFE_LOGO_NAME_FLAME.2_INCH
designator LOGO?, comment SparkFun Font Logo w/ Flame    This is the SparkFun full logo. The logo on the schematic will always be the same size; the package variant is the height of the flame part of the logo. Default layer for the logo on the board is tSilk.  (value not drawn)
GateName_1: G$1; SymbolName_1: SFE_LOGO_NAME_FLAME; DeviceName: .2_INCH; LibraryName: SparkFun-Aesthetics; DeviceSetName: SFE_LOGO_NAME_FLAME; Package: SFE_LOGO_NAME_FLAME_.2
footprint SFE_LOGO_NAME_FLAME_.2

## SFE_LOGO_NAME_FLAME.3_INCH
designator LOGO?, comment SparkFun Font Logo w/ Flame    This is the SparkFun full logo. The logo on the schematic will always be the same size; the package variant is the height of the flame part of the logo. Default layer for the logo on the board is tSilk.  (value not drawn)
GateName_1: G$1; SymbolName_1: SFE_LOGO_NAME_FLAME; DeviceName: .3_INCH; LibraryName: SparkFun-Aesthetics; DeviceSetName: SFE_LOGO_NAME_FLAME; Package: SFE_LOGO_NAME_FLAME_.3
footprint SFE_LOGO_NAME_FLAME_.3

## SFE_LOGO_NAME_FLAME.4_INCH
designator LOGO?, comment SparkFun Font Logo w/ Flame    This is the SparkFun full logo. The logo on the schematic will always be the same size; the package variant is the height of the flame part of the logo. Default layer for the logo on the board is tSilk.  (value not drawn)
GateName_1: G$1; SymbolName_1: SFE_LOGO_NAME_FLAME; DeviceName: .4_INCH; LibraryName: SparkFun-Aesthetics; DeviceSetName: SFE_LOGO_NAME_FLAME; Package: SFE_LOGO_NAME_FLAME_.4
footprint SFE_LOGO_NAME_FLAME_.4

## SFE_LOGO_NAME_FLAME.5_INCH
designator LOGO?, comment SparkFun Font Logo w/ Flame    This is the SparkFun full logo. The logo on the schematic will always be the same size; the package variant is the height of the flame part of the logo. Default layer for the logo on the board is tSilk.  (value not drawn)
GateName_1: G$1; SymbolName_1: SFE_LOGO_NAME_FLAME; DeviceName: .5_INCH; LibraryName: SparkFun-Aesthetics; DeviceSetName: SFE_LOGO_NAME_FLAME; Package: SFE_LOGO_NAME_FLAME_.5
footprint SFE_LOGO_NAME_FLAME_.5

## SFE_LOGO_NAME_FLAME.6_INCH
designator LOGO?, comment SparkFun Font Logo w/ Flame    This is the SparkFun full logo. The logo on the schematic will always be the same size; the package variant is the height of the flame part of the logo. Default layer for the logo on the board is tSilk.  (value not drawn)
GateName_1: G$1; SymbolName_1: SFE_LOGO_NAME_FLAME; DeviceName: .6_INCH; LibraryName: SparkFun-Aesthetics; DeviceSetName: SFE_LOGO_NAME_FLAME; Package: SFE_LOGO_NAME_FLAME_.6
footprint SFE_LOGO_NAME_FLAME_.6

## SFE_LOGO_NAME_FLAME.7_INCH
designator LOGO?, comment SparkFun Font Logo w/ Flame    This is the SparkFun full logo. The logo on the schematic will always be the same size; the package variant is the height of the flame part of the logo. Default layer for the logo on the board is tSilk.  (value not drawn)
GateName_1: G$1; SymbolName_1: SFE_LOGO_NAME_FLAME; DeviceName: .7_INCH; LibraryName: SparkFun-Aesthetics; DeviceSetName: SFE_LOGO_NAME_FLAME; Package: SFE_LOGO_NAME_FLAME_.7
footprint SFE_LOGO_NAME_FLAME_.7

## SFE_LOGO_NAME_FLAME.8_INCH
designator LOGO?, comment SparkFun Font Logo w/ Flame    This is the SparkFun full logo. The logo on the schematic will always be the same size; the package variant is the height of the flame part of the logo. Default layer for the logo on the board is tSilk.  (value not drawn)
GateName_1: G$1; SymbolName_1: SFE_LOGO_NAME_FLAME; DeviceName: .8_INCH; LibraryName: SparkFun-Aesthetics; DeviceSetName: SFE_LOGO_NAME_FLAME; Package: SFE_LOGO_NAME_FLAME_.8
footprint SFE_LOGO_NAME_FLAME_.8

## SFE_LOGO_NAME_FLAME.9_INCH
designator LOGO?, comment SparkFun Font Logo w/ Flame    This is the SparkFun full logo. The logo on the schematic will always be the same size; the package variant is the height of the flame part of the logo. Default layer for the logo on the board is tSilk.  (value not drawn)
GateName_1: G$1; SymbolName_1: SFE_LOGO_NAME_FLAME; DeviceName: .9_INCH; LibraryName: SparkFun-Aesthetics; DeviceSetName: SFE_LOGO_NAME_FLAME; Package: SFE_LOGO_NAME_FLAME_.9
footprint SFE_LOGO_NAME_FLAME_.9

## SFE_LOGO_NAME_WEB
designator LOGO?, comment SparkFun Logo w/ ".com" and Flame    SparkFun-font w/ flame and ".com"  (value not drawn)
GateName_1: G$1; SymbolName_1: SFE_LOGO_NAME_FLAME; DeviceSetName: SFE_LOGO_NAME_WEB; LibraryName: SparkFun-Aesthetics; Package: SFE_LOGO_NAME_WEB
footprint SFE_LOGO_NAME_WEB

## SFE_LUDUSSFE_LUDUS-L
designator LOGO?, comment SparkFun Education Mascot - Ludus! - Silkscreen    Ludus logo for SparkFun Education products.  (value not drawn)
GateName_1: G$1; SymbolName_1: SFE_LUDUS_LOGO; DeviceName: SFE_LUDUS-L; DeviceSetName: SFE_LUDUS; LibraryName: SparkFun-Aesthetics; Package: SFE_LUDUS-L
footprint SFE_LUDUS-L

## SFE_LUDUSSFE_LUDUS-M
designator LOGO?, comment SparkFun Education Mascot - Ludus! - Silkscreen    Ludus logo for SparkFun Education products.  (value not drawn)
GateName_1: G$1; SymbolName_1: SFE_LUDUS_LOGO; DeviceName: SFE_LUDUS-M; DeviceSetName: SFE_LUDUS; LibraryName: SparkFun-Aesthetics; Package: SFE_LUDUS-M
footprint SFE_LUDUS-M

## SFE_LUDUSSFE_LUDUS-S
designator LOGO?, comment SparkFun Education Mascot - Ludus! - Silkscreen    Ludus logo for SparkFun Education products.  (value not drawn)
GateName_1: G$1; SymbolName_1: SFE_LUDUS_LOGO; DeviceName: SFE_LUDUS-S; DeviceSetName: SFE_LUDUS; LibraryName: SparkFun-Aesthetics; Package: SFE_LUDUS-S
footprint SFE_LUDUS-S

## SMART_BASIC_LOGO
designator LOGO?, comment SparkFun Smart Basic Logo - Silkscreen    Silkscreen logo for SparkFun FTDI SmartBasic.  (value not drawn)
GateName_1: G$1; SymbolName_1: SMART_BASIC_LOGO; LibraryName: SparkFun-Aesthetics; DeviceSetName: SMART_BASIC_LOGO; Package: SMART_BASIC_LOGO
footprint SMART_BASIC_LOGO

## SPARKPUNK_LOGO.1_INCH_TALL
designator LOGO?, comment SparkPunk Logo - Silkscreen    Silkscreen logo used on the SparkFun SparkPunk Sound Kit and SparkFun SparkPunk Sequencer Kit.  (value not drawn)
GateName_1: G$1; SymbolName_1: SPARKPUNK_LOGO; DeviceName: .1_INCH_TALL; LibraryName: SparkFun-Aesthetics; DeviceSetName: SPARKPUNK_LOGO; Package: SPARKPUNK_LOGO_.1
footprint SPARKPUNK_LOGO_.1

## SPARKPUNK_LOGO.2_INCH_TALL
designator LOGO?, comment SparkPunk Logo - Silkscreen    Silkscreen logo used on the SparkFun SparkPunk Sound Kit and SparkFun SparkPunk Sequencer Kit.  (value not drawn)
GateName_1: G$1; SymbolName_1: SPARKPUNK_LOGO; DeviceName: .2_INCH_TALL; LibraryName: SparkFun-Aesthetics; DeviceSetName: SPARKPUNK_LOGO; Package: SPARKPUNK_LOGO_.2
footprint SPARKPUNK_LOGO_.2

## SPECIAL_INSTRUCTIONS-ORDERING
designator LOGO?, comment Special Ordering/Production Instructions Alert    Symbol for special PCB ordering instructions or unique production process warnings.      Ordering InstructionsProduction Instructions      Types of information that should be added to box: Copper weight  Soldermask color  Silk color  PCB thickness  Number of layers       PCB Standard: 1.6mm FR4  1 oz copper  immersion silver plating  red soldermask  white silkscreen    	   Types of information that should be added to box: Special wash requirements  Depaneling instructions  Humidification  Glue curing    	   Default text settings: 0.07 inch  9% ratio  50% line distance  (value not drawn)
GateName_1: G$1; SymbolName_1: SPECIAL_INSTRUCTIONS; DeviceName: -ORDERING; LibraryName: SparkFun-Aesthetics; DeviceSetName: SPECIAL_INSTRUCTIONS; Package: ORDERING_INSTRUCTIONS
footprint ORDERING_INSTRUCTIONS

## SPECIAL_INSTRUCTIONS-PRODUCTION
designator LOGO?, comment Special Ordering/Production Instructions Alert    Symbol for special PCB ordering instructions or unique production process warnings.      Ordering InstructionsProduction Instructions      Types of information that should be added to box: Copper weight  Soldermask color  Silk color  PCB thickness  Number of layers       PCB Standard: 1.6mm FR4  1 oz copper  immersion silver plating  red soldermask  white silkscreen    	   Types of information that should be added to box: Special wash requirements  Depaneling instructions  Humidification  Glue curing    	   Default text settings: 0.07 inch  9% ratio  50% line distance  (value not drawn)
GateName_1: G$1; SymbolName_1: SPECIAL_INSTRUCTIONS; DeviceName: -PRODUCTION; LibraryName: SparkFun-Aesthetics; DeviceSetName: SPECIAL_INSTRUCTIONS; Package: PRODUCTION_INSTRUCTIONS
footprint PRODUCTION_INSTRUCTIONS